# EAGLE library part TD-127-G-AA (library SAMTEC-Txx_By_element14_Batch_1)
CONN RECEPTACLE, 2.54MM, THT VERT, 54WAY
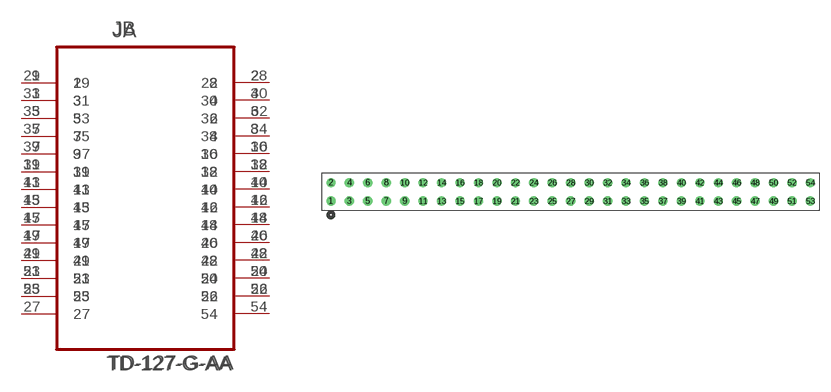
[diagram p72: symbol with the pads of SAMTEC_TD-127-G-AA; footprint SAMTEC_TD-127-G-AA]

Designator prefix J; gates A=TD-127-G-AA_A B=TD-127-G-AA_B

## TD-127-G-AA (MPN: TD-127-G-AA; OC_FARNELL: 2020235; OC_NEWARK: -; PACKAGE: RECEPTACLE, 2.54MM, THT VERT, 54WAY; SUPPLIER: SAMTEC)  [SAMTEC_TD-127-G-AA]
1  A:1  pas
2  A:2  pas
3  A:3  pas
4  A:4  pas
5  A:5  pas
6  A:6  pas
7  A:7  pas
8  A:8  pas
9  A:9  pas
10  A:10  pas
11  A:11  pas
12  A:12  pas
13  A:13  pas
14  A:14  pas
15  A:15  pas
16  A:16  pas
17  A:17  pas
18  A:18  pas
19  A:19  pas
20  A:20  pas
21  A:21  pas
22  A:22  pas
23  A:23  pas
24  A:24  pas
25  A:25  pas
26  A:26  pas
27  A:27  pas
28  B:28  pas
29  B:29  pas
30  B:30  pas
31  B:31  pas
32  B:32  pas
33  B:33  pas
34  B:34  pas
35  B:35  pas
36  B:36  pas
37  B:37  pas
38  B:38  pas
39  B:39  pas
40  B:40  pas
41  B:41  pas
42  B:42  pas
43  B:43  pas
44  B:44  pas
45  B:45  pas
46  B:46  pas
47  B:47  pas
48  B:48  pas
49  B:49  pas
50  B:50  pas
51  B:51  pas
52  B:52  pas
53  B:53  pas
54  B:54  pas

## Footprint SAMTEC_TD-127-G-AA (pad centres in mm)
drill 0.762: 1 -66.04,-2.54; 2 -66.04,0; 3 -63.5,-2.54; 4 -63.5,0; 5 -60.96,-2.54; 6 -60.96,0; 7 -58.42,-2.54; 8 -58.42,0; 9 -55.88,-2.54; 10 -55.88,0; 11 -53.34,-2.54; 12 -53.34,0; 13 -50.8,-2.54; 14 -50.8,0; 15 -48.26,-2.54; 16 -48.26,0; 17 -45.72,-2.54; 18 -45.72,0; 19 -43.18,-2.54; 20 -43.18,0; 21 -40.64,-2.54; 22 -40.64,0; 23 -38.1,-2.54; 24 -38.1,0; 25 -35.56,-2.54; 26 -35.56,0; 27 -33.02,-2.54; 28 -33.02,0; 29 -30.48,-2.54; 30 -30.48,0; 31 -27.94,-2.54; 32 -27.94,0; 33 -25.4,-2.54; 34 -25.4,0; 35 -22.86,-2.54; 36 -22.86,0; 37 -20.32,-2.54; 38 -20.32,0; 39 -17.78,-2.54; 40 -17.78,0; 41 -15.24,-2.54; 42 -15.24,0; 43 -12.7,-2.54; 44 -12.7,0; 45 -10.16,-2.54; 46 -10.16,0; 47 -7.62,-2.54; 48 -7.62,0; 49 -5.08,-2.54; 50 -5.08,0; 51 -2.54,-2.54; 52 -2.54,0; 53 0,-2.54; 54 0,0